# EAGLE library part SPH0645_MEMS_MICROPHONE (library nathans-custom-parts)
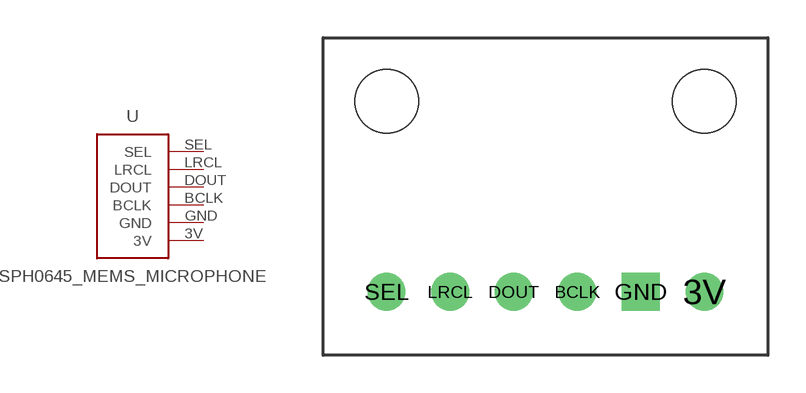
[diagram p3: symbol with the pads of SPH0645; footprint SPH0645]

Designator prefix -

## SPH0645_MEMS_MICROPHONE  [SPH0645]
3V  3V
BCLK  BCLK
DOUT  DOUT
GND  GND
LRCL  LRCL
SEL  SEL

## Footprint SPH0645 (pad centres in mm)
drill 1: 3V 12.7,0; BCLK 7.62,0; DOUT 5.08,0; LRCL 2.54,0; SEL 0,0
drill 1 square: GND 10.16,0
hole 2.54 at 0,7.62
hole 2.54 at 12.7,7.62